# Altium footprint library Components - 20.03.23 - 14.23.PcbLib: 1 footprints
Each footprint in its own frame and in the unit in brackets; x right, y up, seen from the top. Pads: shape width x height; smd on the part's side, far side on the other; paste and mask are expansions set on the pad; w line width, h text height; cw(c..) or ccw(c..) is an arc to the next point about the centre after c.
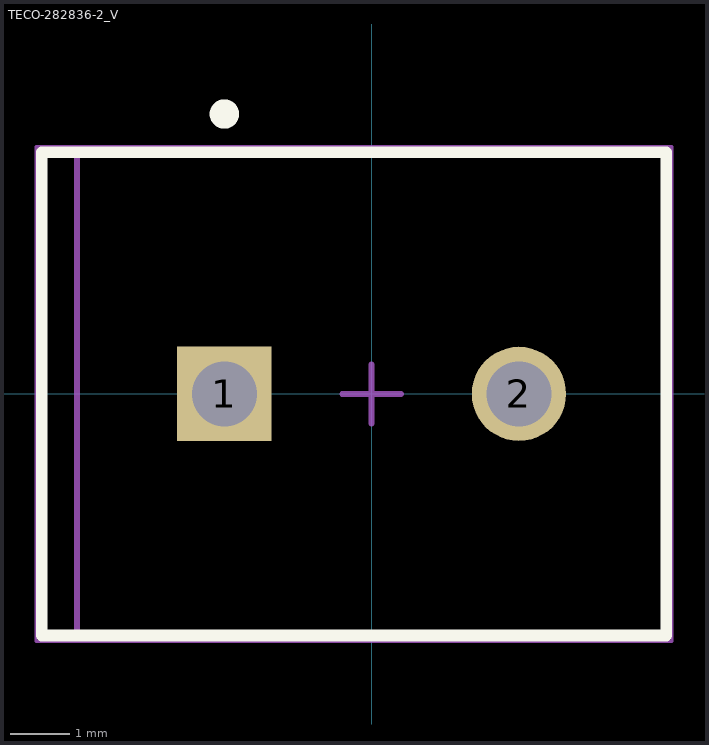
[diagram p0: the footprint, top view; thin cyan lines are the x and y axes]

## TECO-282836-2_V [mm] "Female Header, Pitch 5mm, 1 x 2 Position, Height 10mm"
height 10
pads (2):
  rect 1.6x1.6 hole 1.1: 1(-2.5,0)
  round 1.6 hole 1.1: 2(2.5,0)
Top Overlay:
  circle w0.25: c-2.5,4.75 r0.125
  lines w0.2: -5.6,-4.1 -5.6,4.1 5,4.1 5,-4.1 -5.6,-4.1
Mechanical 13:
  lines w0.1: -5,-4.1 5,-4.1 5,4.1 -5,4.1 -5,-4.1
Mechanical 15:
  lines w0.05: -5.7,-4.2 5.1,-4.2 5.1,4.2 -5.7,4.2 -5.7,-4.2
  lines w0.1: -0.5,0 0.5,0 ; 0,-0.5 0,0.5
3D body "c-282836-2-h-3d.stp": height 10, standoff -3.5, extent -5.6,-4.1 5,4.1